# EAGLE library part OPTOCLEN-4 (library TABOR K1)
Optoclen 4x
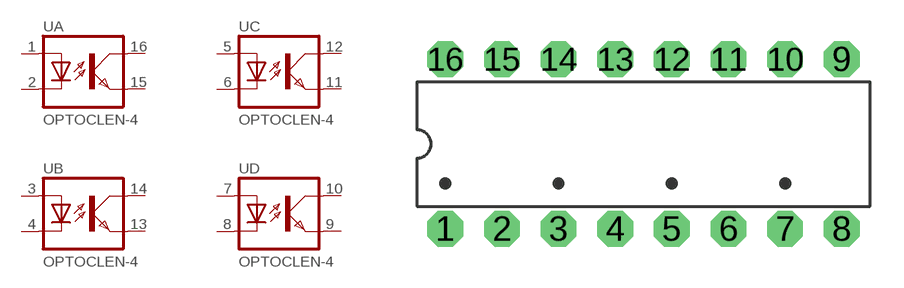
[diagram p3: symbol with the pads of DIL-16A; footprint DIL-16A]

Designator prefix -; gates A=OPTO-1 B=OPTO-1 C=OPTO-1 D=OPTO-1

## OPTOCLEN-4-PC847  [DIL-16A]
1  A:AD  pas
2  A:KD  pas
3  B:AD  pas
4  B:KD  pas
5  C:AD  pas
6  C:KD  pas
7  D:AD  pas
8  D:KD  pas
9  D:ET  pas
10  D:KT  pas
11  C:ET  pas
12  C:KT  pas
13  B:ET  pas
14  B:KT  pas
15  A:ET  pas
16  A:KT  pas

## Footprint DIL-16A (pad centres in mm)
Puzdro DIL 16A
drill 0.61 pad 1.6 octagon: 1 -8.89,-3.81; 2 -6.35,-3.81; 3 -3.81,-3.81; 4 -1.27,-3.81; 5 1.27,-3.81; 6 3.81,-3.81; 7 6.35,-3.81; 8 8.89,-3.81; 9 8.89,3.81; 10 6.35,3.81; 11 3.81,3.81; 12 1.27,3.81; 13 -1.27,3.81; 14 -3.81,3.81; 15 -6.35,3.81; 16 -8.89,3.81